# Altium schematic symbol library CMT-8503-90-SMT-TR.SchLib: 1 symbol
Pins are listed as number, name and electrical type; pins without a type are passive.

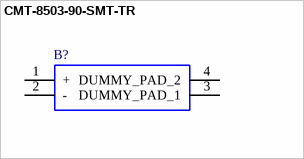
[diagram p0: symbol CMT-8503-90-SMT-TR]

## CMT-8503-90-SMT-TR
designator B?
Audio Buzzer Magnetic 2.5Vo-p 4.5Vo-p 90mA 3.6Vo-p 90dB Surface Mount Solder Pad T/R; Manufacturer_Name: CUI Inc.; Geometry.Height: 3mm; Mouser Part Number: 490-CMT-8503-90SMTTR; Mouser Price/Stock: https://www.mouser.co.uk/ProductDetail/CUI-Devices/CMT-8503-90-SMT-TR?qs=P1JMDcb91o6FnIL1M3V%252BbQ%3D%3D; Manufacturer_Part_Number: CMT-8503-90-SMT-TR; Datasheet Link: https://datasheet.datasheetarchive.com/originals/distributors/Datasheets_SAMA/97e0f1da7ca52a79df1cb853f8cce368.pdf
footprint CMT850390SMTTR
pins: 1 +, 2 -, 3 DUMMY_PAD_1, 4 DUMMY_PAD_2